# Altium schematic symbol library semicon-smd-ipc.SCHLIB: 28 symbols
Pins are listed as number, name and electrical type; pins without a type are passive.

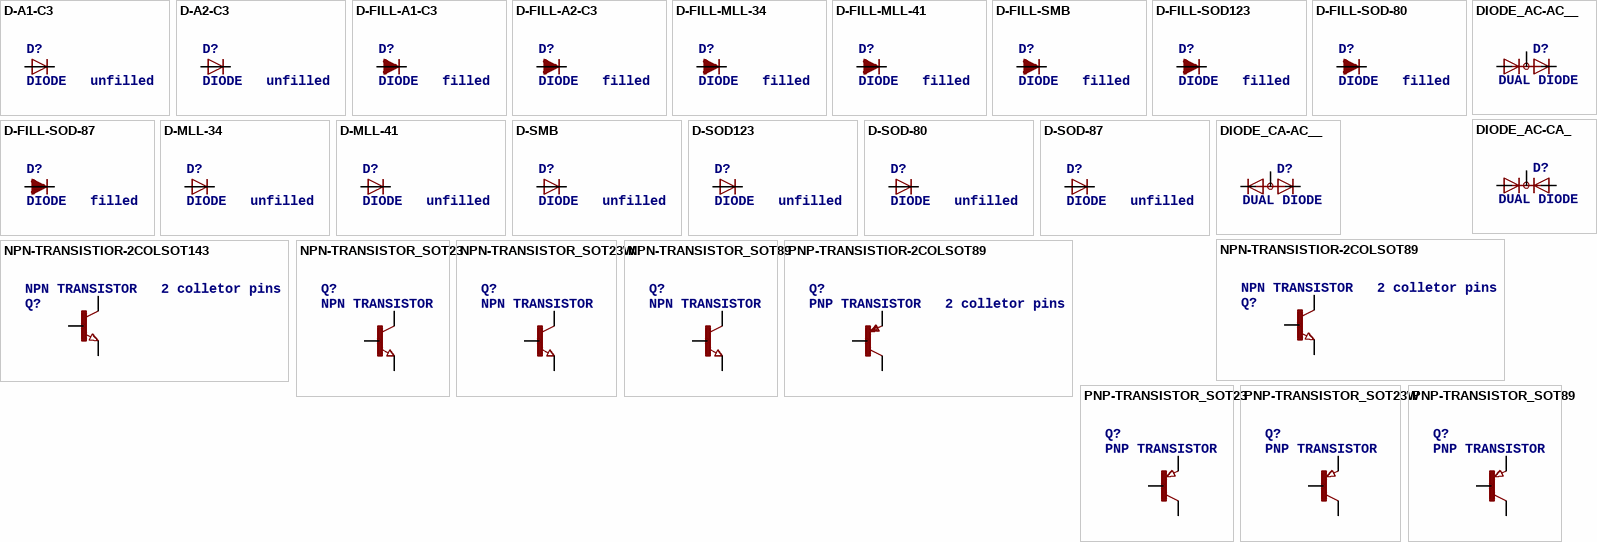
[diagram p0: symbols D-A1-C3 to PNP-TRANSISTOR_SOT89]

## D-A1-C3
designator D?, comment DIODE   unfilled
footprint SOT23
pins: 1 A, 3 C

## D-A2-C3
designator D?, comment DIODE   unfilled
footprint SOT23
pins: 2 A, 3 C

## D-FILL-A1-C3
designator D?, comment DIODE   filled
footprint SOT23
pins: 1 A, 3 C

## D-FILL-A2-C3
designator D?, comment DIODE   filled
footprint SOT23
pins: 2 A, 3 C

## D-FILL-MLL-34
designator D?, comment DIODE   filled
footprint MELF-MLL34
pins: 1 C, 2 A

## D-FILL-MLL-41
designator D?, comment DIODE   filled
footprint MELF-MLL41
pins: 1 C, 2 A

## D-FILL-SMB
designator D?, comment DIODE   filled
footprint SMB
pins: 1 C, 2 A

## D-FILL-SOD123
designator D?, comment DIODE   filled
footprint SOD123
pins: 1 C, 2 A

## D-FILL-SOD-80
designator D?, comment DIODE   filled
footprint SOD80
pins: 1 C, 2 A

## D-FILL-SOD-87
designator D?, comment DIODE   filled
footprint SOD87
pins: 1 C, 2 A

## D-MLL-34
designator D?, comment DIODE   unfilled
footprint MELF-MLL34
pins: 1 C, 2 A

## D-MLL-41
designator D?, comment DIODE   unfilled
footprint MELF-MLL41
pins: 1 C, 2 A

## D-SMB
designator D?, comment DIODE   unfilled
footprint SMB
pins: 1 C, 2 A

## D-SOD123
designator D?, comment DIODE   unfilled
footprint SOD123
pins: 1 C, 2 A

## D-SOD-80
designator D?, comment DIODE   unfilled
footprint SOD80
pins: 1 C, 2 A

## D-SOD-87
designator D?, comment DIODE   unfilled
footprint SOD87
pins: 1 C, 2 A

## DIODE_AC-AC__
designator D?, comment DUAL DIODE
footprint SOT23C
pins: 1 K, 2 A, 3 AK

## DIODE_AC-CA_
designator D?, comment DUAL DIODE
footprint SOT23C
pins: 1 A1, 2 A2, 3 K

## DIODE_CA-AC__
designator D?, comment DUAL DIODE
footprint SOT23C
pins: 1 K1, 2 K2, 3 A

## NPN-TRANSISTIOR-2COLSOT89
designator Q?, comment NPN TRANSISTOR   2 colletor pins
footprint SOT89
pins: 1 B, 2 C, 2@1 C/, 3 E

## NPN-TRANSISTIOR-2COLSOT143
designator Q?, comment NPN TRANSISTOR   2 colletor pins
footprint SOT143
pins: 1 B, 2 C, 3 E, 4 C/

## NPN-TRANSISTOR_SOT23
designator Q?, comment NPN TRANSISTOR
footprint SOT23
pins: 1 B, 2 E, 3 C

## NPN-TRANSISTOR_SOT23W
designator Q?, comment NPN TRANSISTOR
footprint SOT23W
pins: 1 B, 2 C, 3 E

## NPN-TRANSISTOR_SOT89
designator Q?, comment NPN TRANSISTOR
footprint SOT89
pins: 1 B, 2 C, 3 E

## PNP-TRANSISTIOR-2COLSOT89
designator Q?, comment PNP TRANSISTOR   2 colletor pins
footprint SOT89
pins: 1 B, 2 C, 2@1 C/, 3 E

## PNP-TRANSISTOR_SOT23
designator Q?, comment PNP TRANSISTOR
footprint SOT23
pins: 1 B, 2 E, 3 C

## PNP-TRANSISTOR_SOT23W
designator Q?, comment PNP TRANSISTOR
footprint SOT23W
pins: 1 B, 2 E, 3 C

## PNP-TRANSISTOR_SOT89
designator Q?, comment PNP TRANSISTOR
footprint SOT89
pins: 1 B, 2 C, 3 E